# EAGLE library part MCP2515 (library magzor)
standalone CAN controller
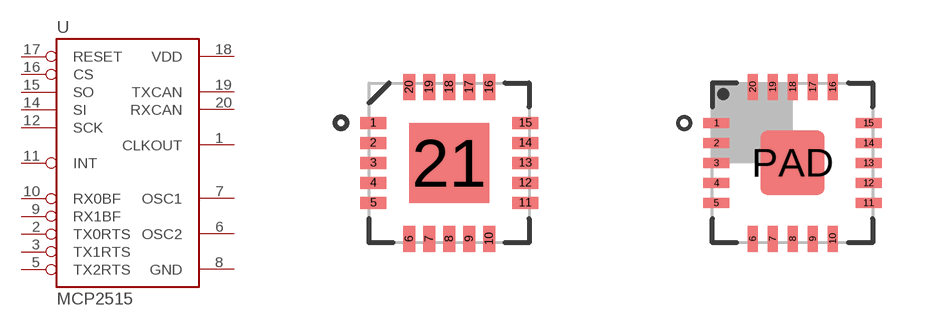
[diagram p5: symbol with the pads of QFN20_; footprints QFN20_, QFN20]

Designator prefix U

## MCP2515*ML  [QFN20_]
1  CLKOUT
2  TX0RTS
3  TX1RTS
5  TX2RTS
6  OSC2
7  OSC1
8  GND
9  RX1BF
10  RX0BF
11  INT
12  SCK
14  SI
15  SO
16  CS
17  RESET
18  VDD
19  TXCAN
20  RXCAN

## MCP2515  [QFN20]
Pads as for QFN20_

## Footprint QFN20_ (pad centres in mm)
0.65mm x 0.3mm pad (not enough space for OSH Park DRC)
smd 0.65 x 0.3: 1 -1.9,1; 2 -1.9,0.5; 3 -1.9,0; 4 -1.9,-0.5; 5 -1.9,-1; 11 1.9,-1; 12 1.9,-0.5; 13 1.9,0; 14 1.9,0.5; 15 1.9,1
smd 0.3 x 0.65: 6 -1,-1.9; 7 -0.5,-1.9; 8 0,-1.9; 9 0.5,-1.9; 10 1,-1.9; 16 1,1.9; 17 0.5,1.9; 18 0,1.9; 19 -0.5,1.9; 20 -1,1.9
smd 2 x 2: 21 0,0

## Footprint QFN20 (pad centres in mm)
smd 0.65 x 0.25: 1 -1.9,1; 2 -1.9,0.5; 3 -1.9,0; 4 -1.9,-0.5; 5 -1.9,-1; 11 1.9,-1; 12 1.9,-0.5; 13 1.9,0; 14 1.9,0.5; 15 1.9,1
smd 0.25 x 0.65: 6 -1,-1.9; 7 -0.5,-1.9; 8 0,-1.9; 9 0.5,-1.9; 10 1,-1.9; 16 1,1.9; 17 0.5,1.9; 18 0,1.9; 19 -0.5,1.9; 20 -1,1.9
smd 1.6 x 1.6: PAD 0,0